# EAGLE library part PIC33FJGS610-14X14 (library 1dah)
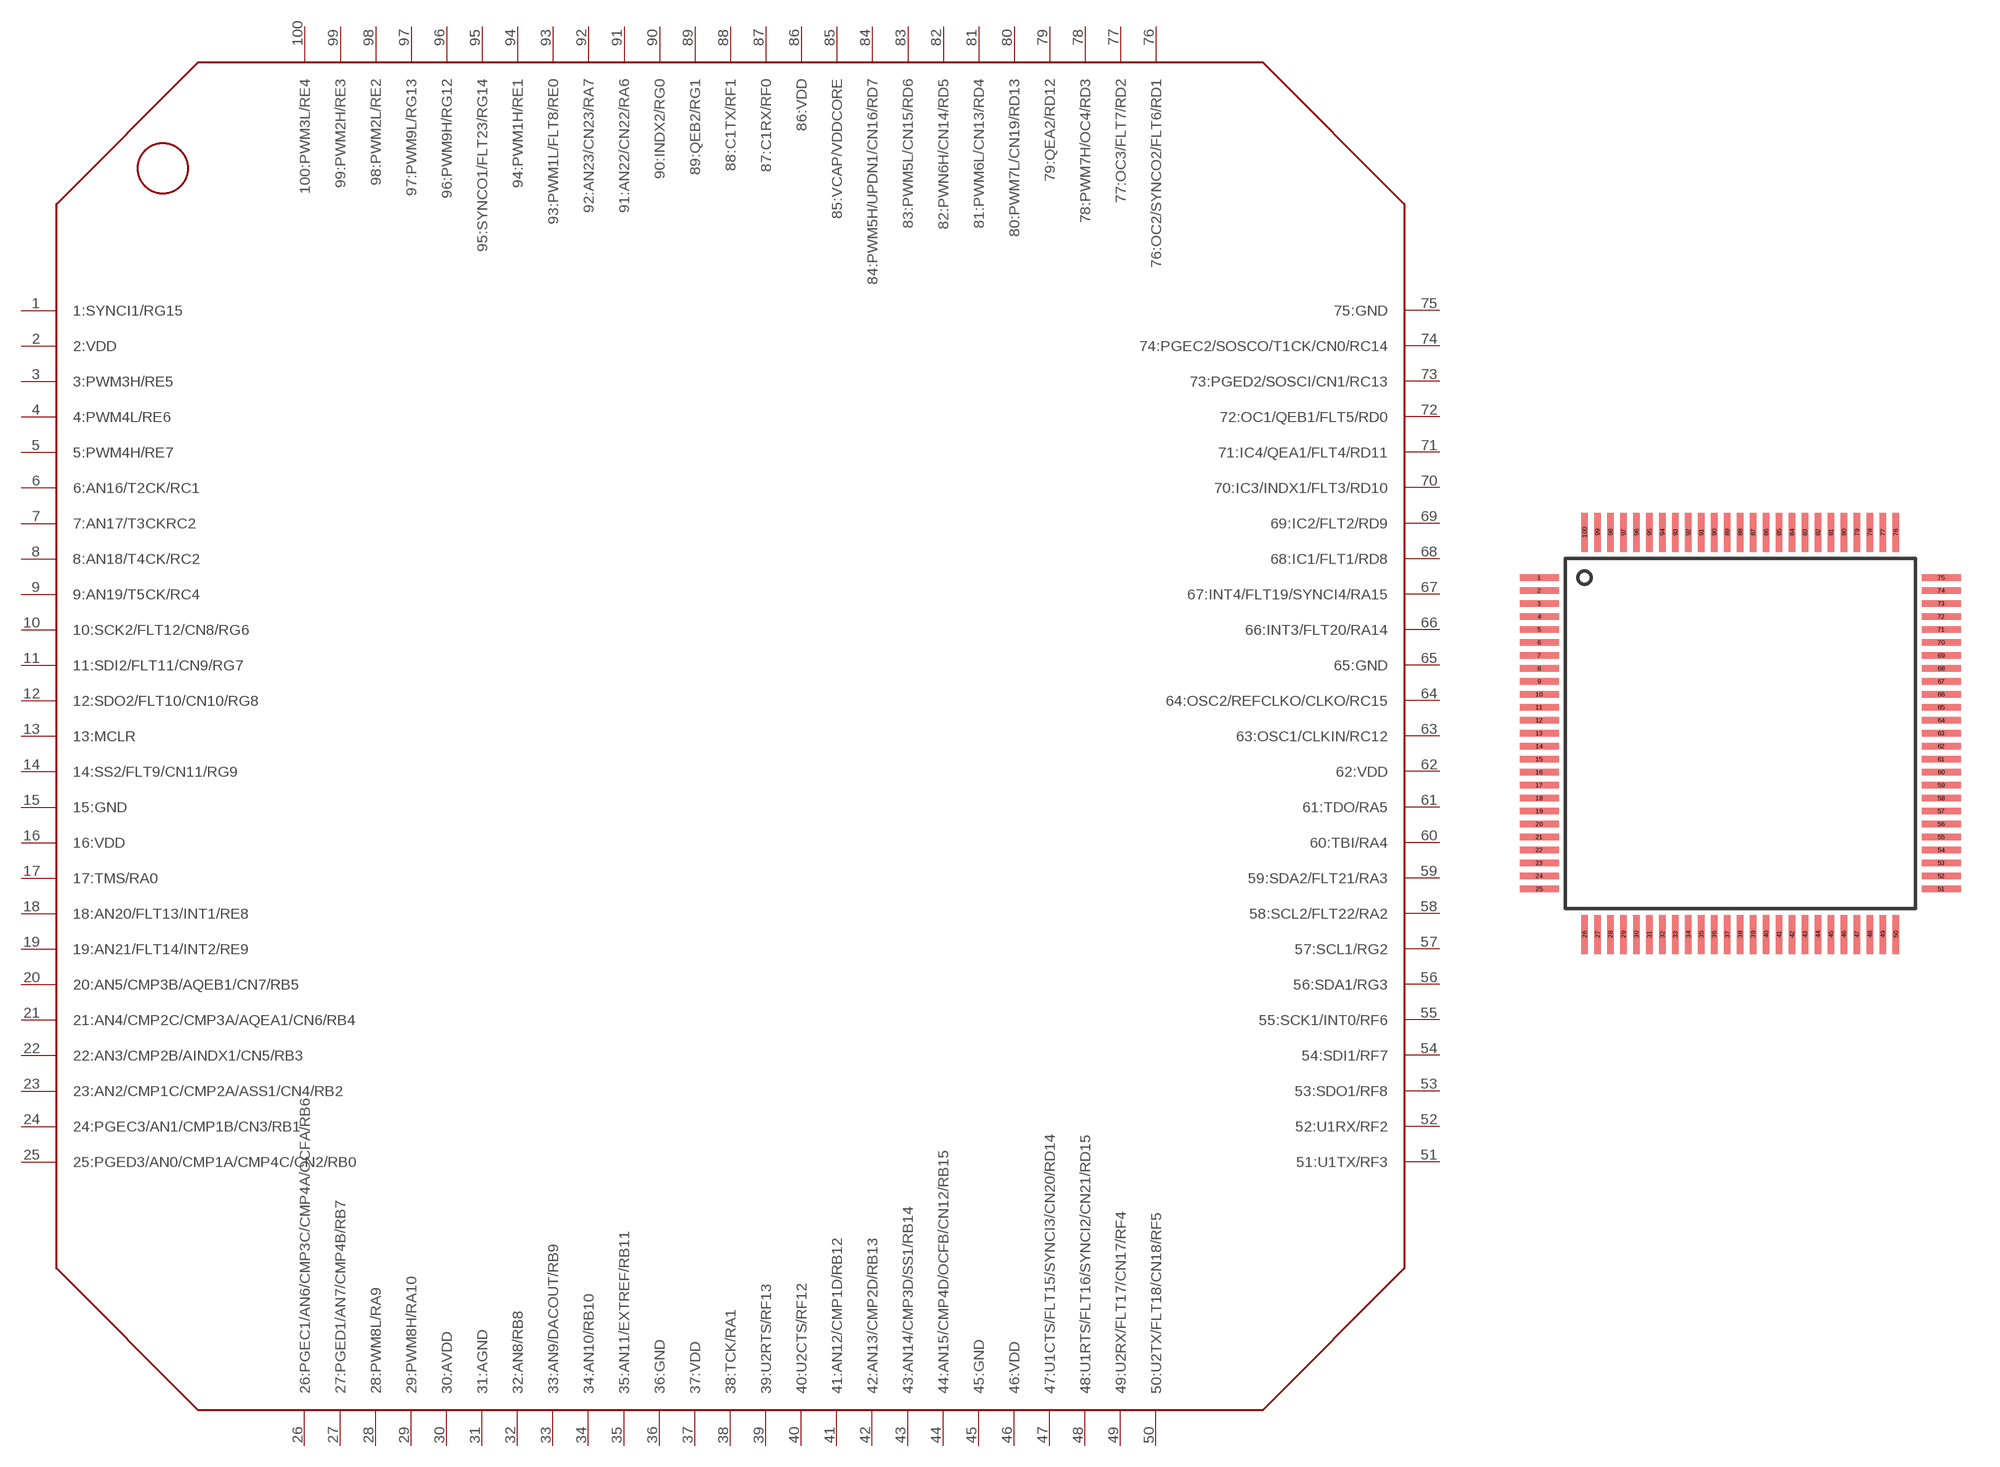
[diagram p18: symbol with the pads of TQFP100-14X14; footprint TQFP100-14X14]

Designator prefix -

## PIC33FJGS610-14X14  [TQFP100-14X14]
1  1:SYNCI1/RG15
2  2:VDD
3  3:PWM3H/RE5
4  4:PWM4L/RE6
5  5:PWM4H/RE7
6  6:AN16/T2CK/RC1
7  7:AN17/T3CKRC2
8  8:AN18/T4CK/RC2
9  9:AN19/T5CK/RC4
10  10:SCK2/FLT12/CN8/RG6
11  11:SDI2/FLT11/CN9/RG7
12  12:SDO2/FLT10/CN10/RG8
13  13:MCLR
14  14:SS2/FLT9/CN11/RG9
15  15:GND
16  16:VDD
17  17:TMS/RA0
18  18:AN20/FLT13/INT1/RE8
19  19:AN21/FLT14/INT2/RE9
20  20:AN5/CMP3B/AQEB1/CN7/RB5
21  21:AN4/CMP2C/CMP3A/AQEA1/CN6/RB4
22  22:AN3/CMP2B/AINDX1/CN5/RB3
23  23:AN2/CMP1C/CMP2A/ASS1/CN4/RB2
24  24:PGEC3/AN1/CMP1B/CN3/RB1
25  25:PGED3/AN0/CMP1A/CMP4C/CN2/RB0
26  26:PGEC1/AN6/CMP3C/CMP4A/OCFA/RB6
27  27:PGED1/AN7/CMP4B/RB7
28  28:PWM8L/RA9
29  29:PWM8H/RA10
30  30:AVDD
31  31:AGND
32  32:AN8/RB8
33  33:AN9/DACOUT/RB9
34  34:AN10/RB10
35  35:AN11/EXTREF/RB11
36  36:GND
37  37:VDD
38  38:TCK/RA1
39  39:U2RTS/RF13
40  40:U2CTS/RF12
41  41:AN12/CMP1D/RB12
42  42:AN13/CMP2D/RB13
43  43:AN14/CMP3D/SS1/RB14
44  44:AN15/CMP4D/OCFB/CN12/RB15
45  45:GND
46  46:VDD
47  47:U1CTS/FLT15/SYNCI3/CN20/RD14
48  48:U1RTS/FLT16/SYNCI2/CN21/RD15
49  49:U2RX/FLT17/CN17/RF4
50  50:U2TX/FLT18/CN18/RF5
51  51:U1TX/RF3
52  52:U1RX/RF2
53  53:SDO1/RF8
54  54:SDI1/RF7
55  55:SCK1/INT0/RF6
56  56:SDA1/RG3
57  57:SCL1/RG2
58  58:SCL2/FLT22/RA2
59  59:SDA2/FLT21/RA3
60  60:TBI/RA4
61  61:TDO/RA5
62  62:VDD
63  63:OSC1/CLKIN/RC12
64  64:OSC2/REFCLKO/CLKO/RC15
65  65:GND
66  66:INT3/FLT20/RA14
67  67:INT4/FLT19/SYNCI4/RA15
68  68:IC1/FLT1/RD8
69  69:IC2/FLT2/RD9
70  70:IC3/INDX1/FLT3/RD10
71  71:IC4/QEA1/FLT4/RD11
72  72:OC1/QEB1/FLT5/RD0
73  73:PGED2/SOSCI/CN1/RC13
74  74:PGEC2/SOSCO/T1CK/CN0/RC14
75  75:GND
76  76:OC2/SYNCO2/FLT6/RD1
77  77:OC3/FLT7/RD2
78  78:PWM7H/OC4/RD3
79  79:QEA2/RD12
80  80:PWM7L/CN19/RD13
81  81:PWM6L/CN13/RD4
82  82:PWN6H/CN14/RD5
83  83:PWM5L/CN15/RD6
84  84:PWM5H/UPDN1/CN16/RD7
85  85:VCAP/VDDCORE
86  86:VDD
87  87:C1RX/RF0
88  88:C1TX/RF1
89  89:QEB2/RG1
90  90:INDX2/RG0
91  91:AN22/CN22/RA6
92  92:AN23/CN23/RA7
93  93:PWM1L/FLT8/RE0
94  94:PWM1H/RE1
95  95:SYNCO1/FLT23/RG14
96  96:PWM9H/RG12
97  97:PWM9L/RG13
98  98:PWM2L/RE2
99  99:PWM2H/RE3
100  100:PWM3L/RE4

## Footprint TQFP100-14X14 (pad centres in mm)
smd 1.5 x 0.25: 1 -7.75,6; 2 -7.75,5.5; 3 -7.75,5; 4 -7.75,4.5; 5 -7.75,4; 6 -7.75,3.5; 7 -7.75,3; 8 -7.75,2.5; 9 -7.75,2; 10 -7.75,1.5; 11 -7.75,1; 12 -7.75,0.5; 13 -7.75,0; 14 -7.75,-0.5; 15 -7.75,-1; 16 -7.75,-1.5; 17 -7.75,-2; 18 -7.75,-2.5; 19 -7.75,-3; 20 -7.75,-3.5; 21 -7.75,-4; 22 -7.75,-4.5; 23 -7.75,-5; 24 -7.75,-5.5; 25 -7.75,-6; 51 7.75,-6; 52 7.75,-5.5; 53 7.75,-5; 54 7.75,-4.5; 55 7.75,-4; 56 7.75,-3.5; 57 7.75,-3; 58 7.75,-2.5; 59 7.75,-2; 60 7.75,-1.5; 61 7.75,-1; 62 7.75,-0.5; 63 7.75,0; 64 7.75,0.5; 65 7.75,1; 66 7.75,1.5; 67 7.75,2; 68 7.75,2.5; 69 7.75,3; 70 7.75,3.5; 71 7.75,4; 72 7.75,4.5; 73 7.75,5; 74 7.75,5.5; 75 7.75,6
smd 0.25 x 1.5: 26 -6,-7.75; 27 -5.5,-7.75; 28 -5,-7.75; 29 -4.5,-7.75; 30 -4,-7.75; 31 -3.5,-7.75; 32 -3,-7.75; 33 -2.5,-7.75; 34 -2,-7.75; 35 -1.5,-7.75; 36 -1,-7.75; 37 -0.5,-7.75; 38 0,-7.75; 39 0.5,-7.75; 40 1,-7.75; 41 1.5,-7.75; 42 2,-7.75; 43 2.5,-7.75; 44 3,-7.75; 45 3.5,-7.75; 46 4,-7.75; 47 4.5,-7.75; 48 5,-7.75; 49 5.5,-7.75; 50 6,-7.75; 76 6,7.75; 77 5.5,7.75; 78 5,7.75; 79 4.5,7.75; 80 4,7.75; 81 3.5,7.75; 82 3,7.75; 83 2.5,7.75; 84 2,7.75; 85 1.5,7.75; 86 1,7.75; 87 0.5,7.75; 88 0,7.75; 89 -0.5,7.75; 90 -1,7.75; 91 -1.5,7.75; 92 -2,7.75; 93 -2.5,7.75; 94 -3,7.75; 95 -3.5,7.75; 96 -4,7.75; 97 -4.5,7.75; 98 -5,7.75; 99 -5.5,7.75; 100 -6,7.75